# Altium schematic symbol library R5F107DE.SchLib: 1 symbol
Pins are listed as number, name and electrical type; pins without a type are passive.

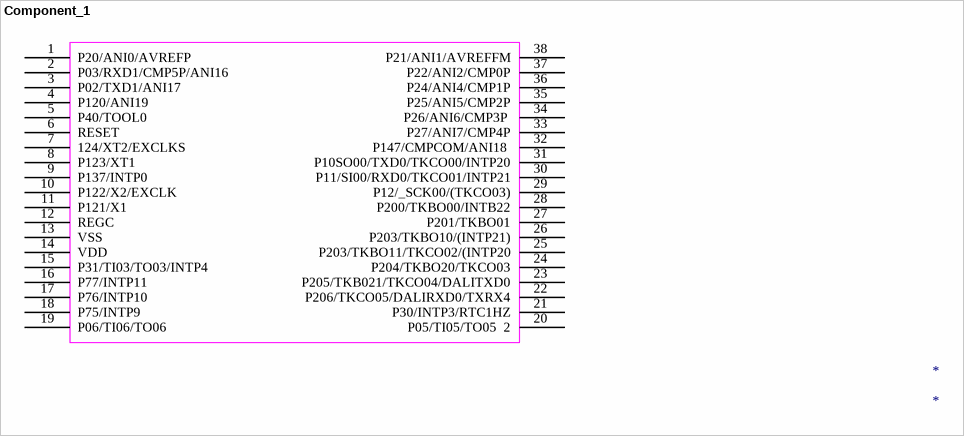
[diagram p0: symbol Component_1]

## Component_1
designator *
pins: 1 P20/ANI0/AVREFP, 2 P03/RXD1/CMP5P/ANI16, 3 P02/TXD1/ANI17, 4 P120/ANI19, 5 P40/TOOL0, 6 RESET, 7 124/XT2/EXCLKS, 8 P123/XT1, 9 P137/INTP0, 10 P122/X2/EXCLK, 11 P121/X1, 12 REGC, 13 VSS, 14 VDD, 15 P31/TI03/TO03/INTP4, 16 P77/INTP11, 17 P76/INTP10, 18 P75/INTP9, 19 P06/TI06/TO06, 20 P05/TI05/TO05  2, 21 P30/INTP3/RTC1HZ, 22 P206/TKCO05/DALIRXD0/TXRX4, 23 P205/TKB021/TKCO04/DALITXD0, 24 P204/TKBO20/TKCO03, 25 P203/TKBO11/TKCO02/(INTP20, 26 P203/TKBO10/(INTP21), 27 P201/TKBO01, 28 P200/TKBO00/INTB22, 29 P12/_SCK00/(TKCO03), 30 P11/SI00/RXD0/TKCO01/INTP21, 31 P10SO00/TXD0/TKCO00/INTP20, 32 P147/CMPCOM/ANI18 , 33 P27/ANI7/CMP4P, 34 P26/ANI6/CMP3P , 35 P25/ANI5/CMP2P, 36 P24/ANI4/CMP1P, 37 P22/ANI2/CMP0P, 38 P21/ANI1/AVREFFM